# Altium integrated library RF_Chip_001.IntLib: 3 symbols
Pins are listed as number, name and electrical type; pins without a type are passive.

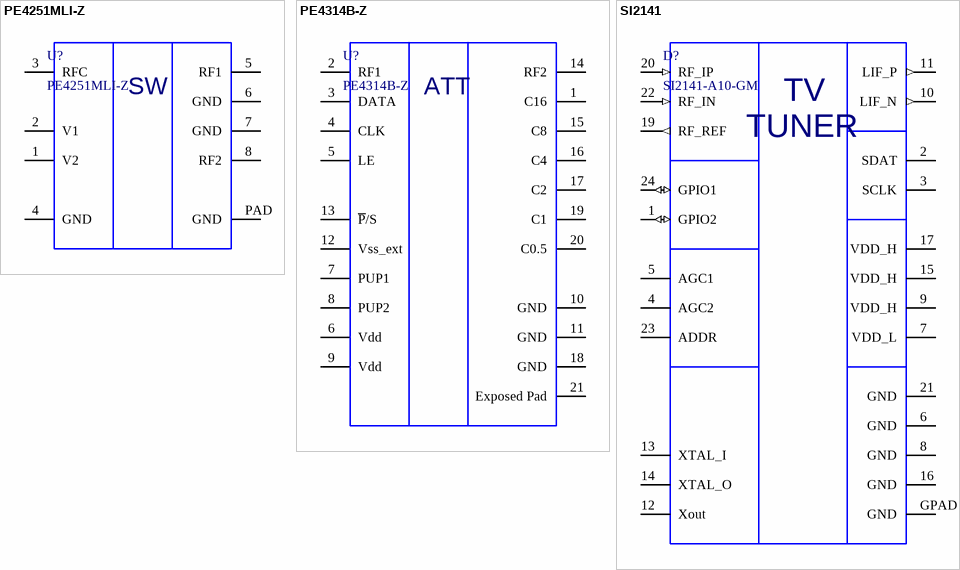
[diagram p0: symbols PE4251MLI-Z to SI2141]

## PE4251MLI-Z
designator U?
RF Switch ICs Green 8 lead MSOP; Manufacturer: Peregrine Semiconductor; ComponentLink1Description: Manufacturer; ComponentLink1URL: https://psemi.com; ComponentLink2Description: Datasheet; ComponentLink2URL: https://psemi.com/pdf/datasheets/pe4314ds.pdf; Family: Chip; Manufacturer P/N: PE4251MLI-Z; Part: PE4251MLI-Z; Value: PE4251MLI-Z
footprint PE4251MLI-Z
pins: 1 V2, 2 V1, 3 RFC, 4 GND, 5 RF1, 6 GND, 7 GND, 8 RF2, PAD GND
text: SW

## PE4314B-Z
designator U?
Attenuators Green 20 lead 4x4 QFN; Manufacturer: Peregrine Semiconductor; ComponentLink1Description: Manufacturer; ComponentLink1URL: https://psemi.com; ComponentLink2Description: Datasheet; ComponentLink2URL: https://psemi.com/pdf/datasheets/pe4314ds.pdf; Family: Chip; Manufacturer P/N: PE4314B-Z; Part: PE4314B-Z; Value: PE4314B-Z; PartNumber: PE4314B-Z
footprint PE4314 (QFN, 20-Leads, Body 4,00x4,00mm, Pitch 0,50mm, Thermal Pad 2,20x2,20mm, IPC Medium Density)
pins: 1 C16, 2 RF1, 3 DATA, 4 CLK, 5 LE, 6 Vdd, 7 PUP1, 8 PUP2, 9 Vdd, 10 GND, 11 GND, 12 Vss_ext, 13 ~{P}/S, 14 RF2, 15 C8, 16 C4, 17 C2, 18 GND, 19 C1, 20 C0.5, 21 Exposed Pad
text: ATT

## SI2141
designator D?, comment SI2141-A10-GM
Tuners Worldwide Digital TV Tuner for ATSC/QAM, DVBT2/T/C2/C, ISDB-T/C, DTMB; Manufacturer: SkyWorks; Vender: *; ProductCode: *; StandartDoc: *; ВП Описание: *; Наименование: *; Описание: *; Part: *; Manufacturer P/N: SI2141-A10-GM; Value: SI2141-A10-GM; ComponentLink1Description: Manufacturer; ComponentLink1URL: *; ComponentLink2Description: Datasheet; ComponentLink2URL: *; ComponentLink3Description: DatasheetLocal; ComponentLink3URL: *; PartNumber: SI2141-A10-GM; Family: Chip
footprint SI2141
pins: 1 GPIO2 (io), 2 SDAT, 3 SCLK, 4 AGC2, 5 AGC1, 6 GND, 7 VDD_L, 8 GND, 9 VDD_H, 10 LIF_N (out), 11 LIF_P (out), 12 Xout, 13 XTAL_I, 14 XTAL_O, 15 VDD_H, 16 GND, 17 VDD_H, 19 RF_REF (out), 20 RF_IP (in), 21 GND, 22 RF_IN (in), 23 ADDR, 24 GPIO1 (io), GPAD GND
text: TV; TUNER